# Altium schematic symbol library C0805.SchLib: 2 symbols
Pins are listed as number, name and electrical type; pins without a type are passive.

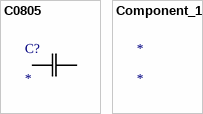
[diagram p0: symbols C0805 to Component_1]

## C0805
designator C?
Imported; Manufacturer_Part_Number: C0805C100C1GACTU; Vendor: Kemet; Built_By: EMA_UL_Team; Type: DEV; C: Copyright (C) 2015 Accelerated Designs. All rights reserved; RefDes: RefDes; Value: Value
footprint C0805C
pins: 1, 2

## Component_1
designator *